# Altium integrated library Analog Devices Interface and Isolation Digital Isolators.IntLib: 644 symbols (part 22 of 37)
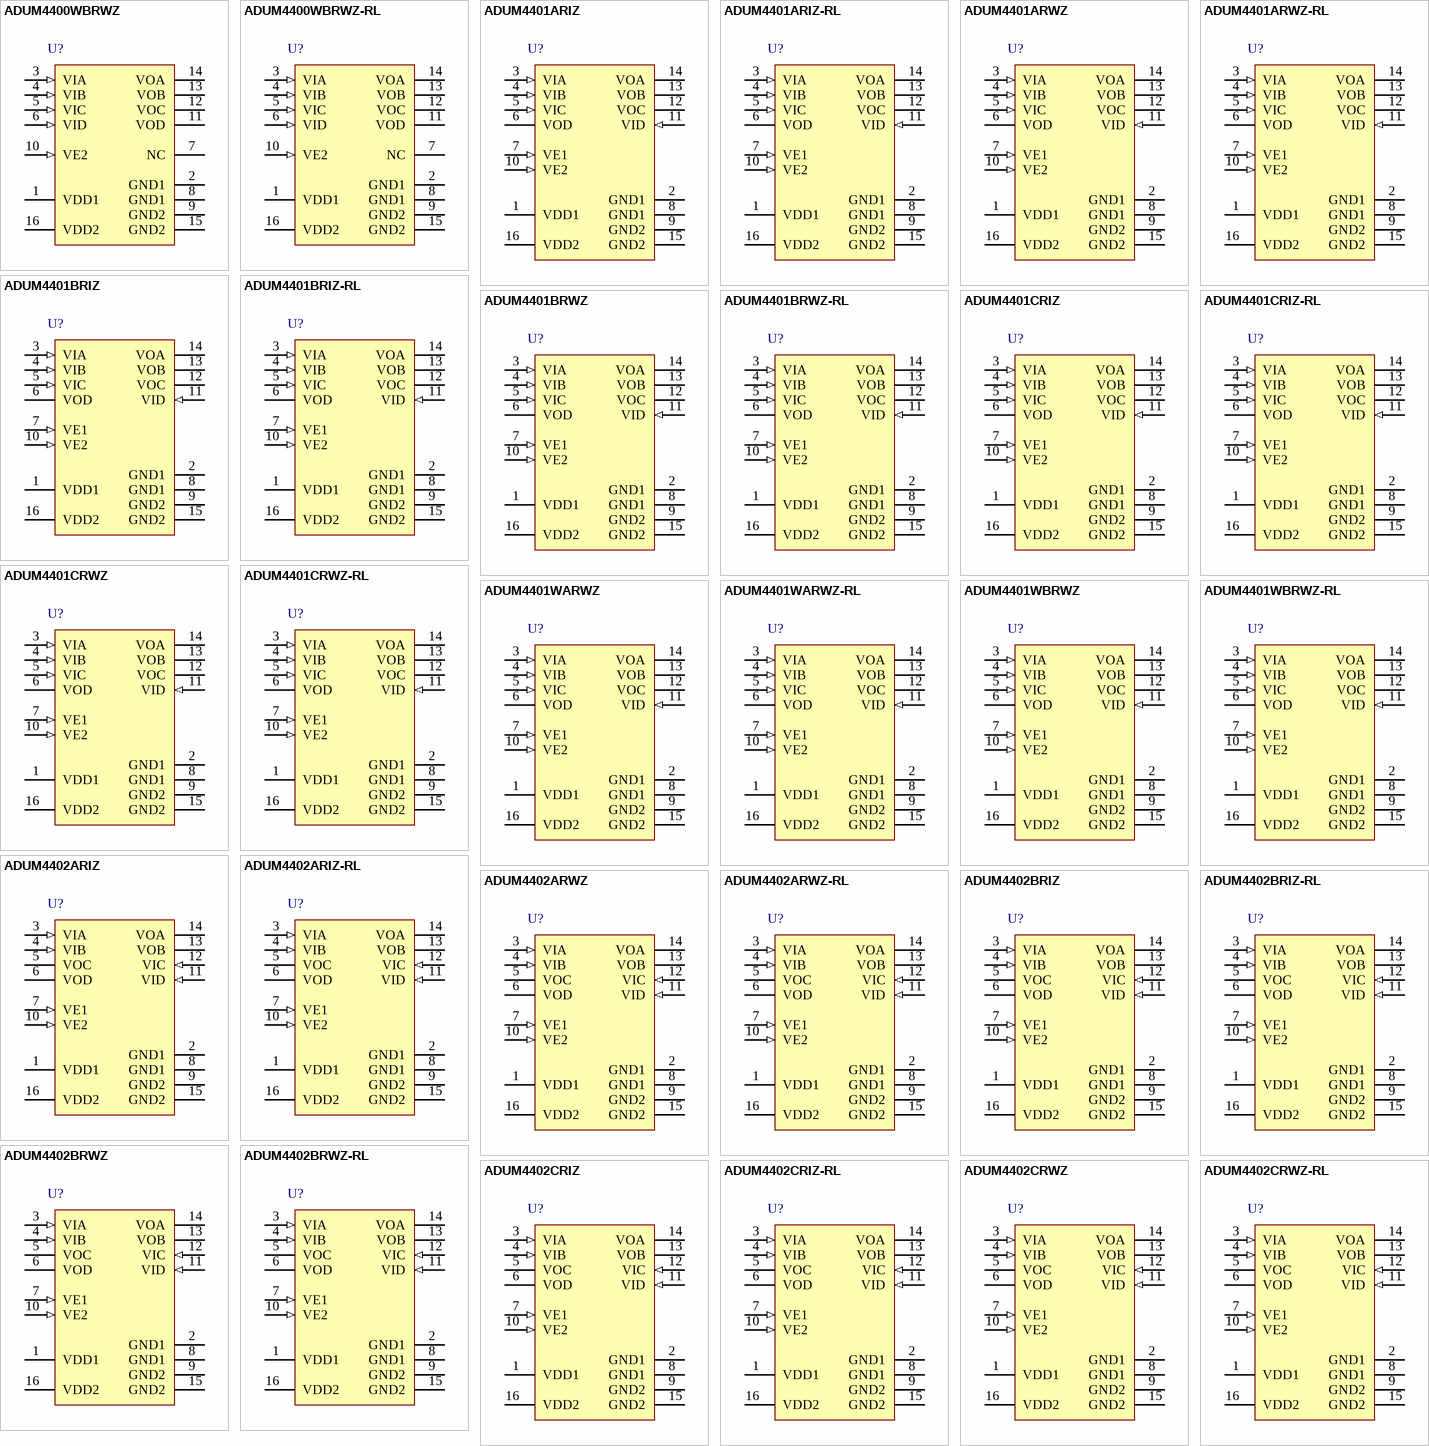
[diagram p41: symbols ADUM4400WBRWZ to ADUM4402CRWZ-RL]

## ADUM4401CRIZ
designator U?
Quad Channel Digital Isolator, 5 KV rms Insulation Rating, 90 Mbps Data Rate, 32 ns Delay, Industrial, 16-pin SOIC (RI-16-1), Tube; Manufacturer: Analog Devices; PartNumber: ADUM4401CRIZ; Insulation Rating (kVrms): 5; Max Data Rate: 90Mbps; DatasheetVersion: Rev. C; PackageVersion: 10-12-2010-A, 02/2012; PackageReference: RI-16-1; PackageDescription: 16-Pin Standard Small Outline Package, with Increased Creepage, Body 12.8 x 7.5 mm, Pitch 1.27 mm; Supplier 1: Digi-Key; Supplier Part Number 1: ADUM4401CRIZ-ND; Supplier 2: Farnell; Supplier Part Number 2: 2061083; Supplier 3: Mouser; Supplier Part Number 3: 584-ADUM4401CRIZ; Max Operating Temp (degreesC): 105; Mounting Technology: Surface Mount; Code_JEDEC: MS-013-AC; ComponentLink1Description: Manufacturer URL; ComponentLink1URL: http://www.analog.com/en/index.html; ComponentLink2Description: Datasheet; ComponentLink2URL: http://www.analog.com/static/imported-files/data_sheets/ADuM4400_4401_4402.pdf; ComponentLink3Description: Package Specification; ComponentLink3URL: http://www.analog.com/static/imported-files/data_sheets/ADuM2400_2401_2402.pdf; ComponentLink4Description: URL Link1; ComponentLink4URL: Product URL:http://www.analog.com/en/interface-isolation/digital-isolators/adum4401/products/product.html
footprint ADI-RI-16-1_N (SOIC, 16-Leads, Body 12.8x7.5mm, Pitch 1.27mm, IPC Medium Density)
footprint ADI-RI-16-1_L (SOIC, 16-Leads, Body 12.8x7.5mm, Pitch 1.27mm, IPC High Density)
footprint ADI-RI-16-1_M (SOIC, 16-Leads, Body 12.8x7.5mm, Pitch 1.27mm, IPC Low Density)
pins: 1 VDD1 (power) "Supply Voltage for Isolator Side 1.", 2 GND1 (power) "Ground 1. Ground reference for Isolator Side 1.", 3 VIA (in) "Logic Input A.", 4 VIB (in) "Logic Input B.", 5 VIC (in) "Logic Input C.", 6 VOD (hiz) "Logic Output D.", 7 VE1 (in) "Output Enable 1. Active high logic input. VOD output is enabled when VE1 is high or disconnected. VOD is disabled when VE1 is low. In noisy environments, connecting VE1 to an external logic high or low is recommended.", 8 GND1 (power) "Ground 1. Ground reference for Isolator Side 1.", 9 GND2 (power) "Ground 2. Ground reference for Isolator Side 2.", 10 VE2 (in) "Output Enable 2. Active high logic input. VOA, VOB, and VOC outputs are enabled when VE2 is high or disconnected. VOA, VOB, and VOC outputs are disabled when VE2 is low. In noisy environments, connecting VE2 to an external (See Datasheet)", 11 VID (in) "Logic Input D.", 12 VOC (hiz) "Logic Output C.", 13 VOB (hiz) "Logic Output B.", 14 VOA (hiz) "Logic Output A.", 15 GND2 (power) "Ground 2. Ground reference for Isolator Side 2.", 16 VDD2 (power) "Supply Voltage for Isolator Side 2."

## ADUM4401CRIZ-RL
designator U?
Quad Channel Digital Isolator, 5 KV rms Insulation Rating, 90 Mbps Data Rate, 32 ns Delay, Industrial, 16-pin SOIC (RI-16-1), Reel; Manufacturer: Analog Devices; PartNumber: ADUM4401CRIZ-RL; Insulation Rating (kVrms): 5; Max Data Rate: 90Mbps; DatasheetVersion: Rev. C; PackageVersion: 10-12-2010-A, 02/2012; PackageReference: RI-16-1; PackageDescription: 16-Pin Standard Small Outline Package, with Increased Creepage, Body 12.8 x 7.5 mm, Pitch 1.27 mm; Supplier 1: Digi-Key; Supplier Part Number 1: ADUM4401CRIZ-RL-ND; Supplier 2: Mouser; Supplier Part Number 2: 584-ADUM4401CRIZ-R; Max Operating Temp (degreesC): 105; Mounting Technology: Surface Mount; Code_JEDEC: MS-013-AC; ComponentLink1Description: Manufacturer URL; ComponentLink1URL: http://www.analog.com/en/index.html; ComponentLink2Description: Datasheet; ComponentLink2URL: http://www.analog.com/static/imported-files/data_sheets/ADuM4400_4401_4402.pdf; ComponentLink3Description: Package Specification; ComponentLink3URL: http://www.analog.com/static/imported-files/data_sheets/ADuM2400_2401_2402.pdf; ComponentLink4Description: URL Link1; ComponentLink4URL: Product URL:http://www.analog.com/en/interface-isolation/digital-isolators/adum4401/products/product.html
footprint ADI-RI-16-1_N (SOIC, 16-Leads, Body 12.8x7.5mm, Pitch 1.27mm, IPC Medium Density)
footprint ADI-RI-16-1_L (SOIC, 16-Leads, Body 12.8x7.5mm, Pitch 1.27mm, IPC High Density)
footprint ADI-RI-16-1_M (SOIC, 16-Leads, Body 12.8x7.5mm, Pitch 1.27mm, IPC Low Density)
pins: 1 VDD1 (power) "Supply Voltage for Isolator Side 1.", 2 GND1 (power) "Ground 1. Ground reference for Isolator Side 1.", 3 VIA (in) "Logic Input A.", 4 VIB (in) "Logic Input B.", 5 VIC (in) "Logic Input C.", 6 VOD (hiz) "Logic Output D.", 7 VE1 (in) "Output Enable 1. Active high logic input. VOD output is enabled when VE1 is high or disconnected. VOD is disabled when VE1 is low. In noisy environments, connecting VE1 to an external logic high or low is recommended.", 8 GND1 (power) "Ground 1. Ground reference for Isolator Side 1.", 9 GND2 (power) "Ground 2. Ground reference for Isolator Side 2.", 10 VE2 (in) "Output Enable 2. Active high logic input. VOA, VOB, and VOC outputs are enabled when VE2 is high or disconnected. VOA, VOB, and VOC outputs are disabled when VE2 is low. In noisy environments, connecting VE2 to an external (See Datasheet)", 11 VID (in) "Logic Input D.", 12 VOC (hiz) "Logic Output C.", 13 VOB (hiz) "Logic Output B.", 14 VOA (hiz) "Logic Output A.", 15 GND2 (power) "Ground 2. Ground reference for Isolator Side 2.", 16 VDD2 (power) "Supply Voltage for Isolator Side 2."

## ADUM4401CRWZ
designator U?
Quad Channel Digital Isolator, 5 KV rms Insulation Rating, 90 Mbps Data Rate, 32 ns Delay, Industrial, 16-pin SOIC (RW-16), Tube; Manufacturer: Analog Devices; PartNumber: ADUM4401CRWZ; Insulation Rating (kVrms): 5; Max Data Rate: 90Mbps; DatasheetVersion: Rev. C; PackageVersion: 032707-B, 03/2007; PackageReference: RW-16; PackageDescription: 16-Pin Standard Small Outline Package, Body 10.3 x 7.5 mm, Pitch 1.27 mm; Supplier 1: Digi-Key; Supplier Part Number 1: ADUM4401CRWZ-ND; Supplier 2: Mouser; Supplier Part Number 2: 584-ADUM4401CRWZ; Max Operating Temp (degreesC): 105; Mounting Technology: Surface Mount; Code_JEDEC: MS-013-AA; ComponentLink1Description: Manufacturer URL; ComponentLink1URL: http://www.analog.com/en/index.html; ComponentLink2Description: Datasheet; ComponentLink2URL: http://www.analog.com/static/imported-files/data_sheets/ADuM4400_4401_4402.pdf; ComponentLink3Description: Package Specification; ComponentLink3URL: http://www.analog.com/static/imported-files/packages/PKG_PDF/SOIC_WIDE%20%28RW%29/RW_16.pdf; ComponentLink4Description: URL Link1; ComponentLink4URL: Product URL:http://www.analog.com/en/interface-isolation/digital-isolators/adum4401/products/product.html
footprint ADI-RW-16_N (SOIC, 16-Leads, Body 10.3x7.5mm, Pitch 1.27mm, IPC Medium Density)
footprint ADI-RW-16_L (SOIC, 16-Leads, Body 10.3x7.5mm, Pitch 1.27mm, IPC High Density)
footprint ADI-RW-16_M (SOIC, 16-Leads, Body 10.3x7.5mm, Pitch 1.27mm, IPC Low Density)
pins: 1 VDD1 (power) "Supply Voltage for Isolator Side 1.", 2 GND1 (power) "Ground 1. Ground reference for Isolator Side 1.", 3 VIA (in) "Logic Input A.", 4 VIB (in) "Logic Input B.", 5 VIC (in) "Logic Input C.", 6 VOD (hiz) "Logic Output D.", 7 VE1 (in) "Output Enable 1. Active high logic input. VOD output is enabled when VE1 is high or disconnected. VOD is disabled when VE1 is low. In noisy environments, connecting VE1 to an external logic high or low is recommended.", 8 GND1 (power) "Ground 1. Ground reference for Isolator Side 1.", 9 GND2 (power) "Ground 2. Ground reference for Isolator Side 2.", 10 VE2 (in) "Output Enable 2. Active high logic input. VOA, VOB, and VOC outputs are enabled when VE2 is high or disconnected. VOA, VOB, and VOC outputs are disabled when VE2 is low. In noisy environments, connecting VE2 to an external (See Datasheet)", 11 VID (in) "Logic Input D.", 12 VOC (hiz) "Logic Output C.", 13 VOB (hiz) "Logic Output B.", 14 VOA (hiz) "Logic Output A.", 15 GND2 (power) "Ground 2. Ground reference for Isolator Side 2.", 16 VDD2 (power) "Supply Voltage for Isolator Side 2."

## ADUM4401CRWZ-RL
designator U?
Quad Channel Digital Isolator, 5 KV rms Insulation Rating, 90 Mbps Data Rate, 32 ns Delay, Industrial, 16-pin SOIC (RW-16), Reel; Manufacturer: Analog Devices; PartNumber: ADUM4401CRWZ-RL; Insulation Rating (kVrms): 5; Max Data Rate: 90Mbps; DatasheetVersion: Rev. C; PackageVersion: 032707-B, 03/2007; PackageReference: RW-16; PackageDescription: 16-Pin Standard Small Outline Package, Body 10.3 x 7.5 mm, Pitch 1.27 mm; Supplier 1: Digi-Key; Supplier Part Number 1: ADUM4401CRWZ-RL-ND; Supplier 2: Mouser; Supplier Part Number 2: 584-ADUM4401CRWZ-R; Max Operating Temp (degreesC): 105; Mounting Technology: Surface Mount; Code_JEDEC: MS-013-AA; ComponentLink1Description: Manufacturer URL; ComponentLink1URL: http://www.analog.com/en/index.html; ComponentLink2Description: Datasheet; ComponentLink2URL: http://www.analog.com/static/imported-files/data_sheets/ADuM4400_4401_4402.pdf; ComponentLink3Description: Package Specification; ComponentLink3URL: http://www.analog.com/static/imported-files/packages/PKG_PDF/SOIC_WIDE%20%28RW%29/RW_16.pdf; ComponentLink4Description: URL Link1; ComponentLink4URL: Product URL:http://www.analog.com/en/interface-isolation/digital-isolators/adum4401/products/product.html
footprint ADI-RW-16_N (SOIC, 16-Leads, Body 10.3x7.5mm, Pitch 1.27mm, IPC Medium Density)
footprint ADI-RW-16_L (SOIC, 16-Leads, Body 10.3x7.5mm, Pitch 1.27mm, IPC High Density)
footprint ADI-RW-16_M (SOIC, 16-Leads, Body 10.3x7.5mm, Pitch 1.27mm, IPC Low Density)
pins: 1 VDD1 (power) "Supply Voltage for Isolator Side 1.", 2 GND1 (power) "Ground 1. Ground reference for Isolator Side 1.", 3 VIA (in) "Logic Input A.", 4 VIB (in) "Logic Input B.", 5 VIC (in) "Logic Input C.", 6 VOD (hiz) "Logic Output D.", 7 VE1 (in) "Output Enable 1. Active high logic input. VOD output is enabled when VE1 is high or disconnected. VOD is disabled when VE1 is low. In noisy environments, connecting VE1 to an external logic high or low is recommended.", 8 GND1 (power) "Ground 1. Ground reference for Isolator Side 1.", 9 GND2 (power) "Ground 2. Ground reference for Isolator Side 2.", 10 VE2 (in) "Output Enable 2. Active high logic input. VOA, VOB, and VOC outputs are enabled when VE2 is high or disconnected. VOA, VOB, and VOC outputs are disabled when VE2 is low. In noisy environments, connecting VE2 to an external (See Datasheet)", 11 VID (in) "Logic Input D.", 12 VOC (hiz) "Logic Output C.", 13 VOB (hiz) "Logic Output B.", 14 VOA (hiz) "Logic Output A.", 15 GND2 (power) "Ground 2. Ground reference for Isolator Side 2.", 16 VDD2 (power) "Supply Voltage for Isolator Side 2."

## ADUM4401WARWZ
designator U?
Quad Channel Digital Isolator, 5 KV rms Insulation Rating, 1 Mbps Data Rate, 100 ns Delay, Automotive, 16-pin SOIC (RW-16), Tube; Manufacturer: Analog Devices; PartNumber: ADUM4401WARWZ; Automotive Qualified: Yes; Insulation Rating (kVrms): 5; Max Data Rate: 1Mbps; DatasheetVersion: Rev. C; PackageVersion: 032707-B, 03/2007; PackageReference: RW-16; PackageDescription: 16-Pin Standard Small Outline Package, Body 10.3 x 7.5 mm, Pitch 1.27 mm; Supplier 1: Digi-Key; Supplier Part Number 1: ADUM4401WARWZ-ND; Supplier 2: Mouser; Supplier Part Number 2: 584-ADUM4401WARWZ; Max Operating Temp (degreesC): 105; Mounting Technology: Surface Mount; Code_JEDEC: MS-013-AA; ComponentLink1Description: Manufacturer URL; ComponentLink1URL: http://www.analog.com/en/index.html; ComponentLink2Description: Datasheet; ComponentLink2URL: http://www.analog.com/static/imported-files/data_sheets/ADuM4400_4401_4402.pdf; ComponentLink3Description: Package Specification; ComponentLink3URL: http://www.analog.com/static/imported-files/packages/PKG_PDF/SOIC_WIDE%20%28RW%29/RW_16.pdf; ComponentLink4Description: URL Link1; ComponentLink4URL: Product URL:http://www.analog.com/en/interface-isolation/digital-isolators/adum4401/products/product.html
footprint ADI-RW-16_N (SOIC, 16-Leads, Body 10.3x7.5mm, Pitch 1.27mm, IPC Medium Density)
footprint ADI-RW-16_L (SOIC, 16-Leads, Body 10.3x7.5mm, Pitch 1.27mm, IPC High Density)
footprint ADI-RW-16_M (SOIC, 16-Leads, Body 10.3x7.5mm, Pitch 1.27mm, IPC Low Density)
pins: 1 VDD1 (power) "Supply Voltage for Isolator Side 1.", 2 GND1 (power) "Ground 1. Ground reference for Isolator Side 1.", 3 VIA (in) "Logic Input A.", 4 VIB (in) "Logic Input B.", 5 VIC (in) "Logic Input C.", 6 VOD (hiz) "Logic Output D.", 7 VE1 (in) "Output Enable 1. Active high logic input. VOD output is enabled when VE1 is high or disconnected. VOD is disabled when VE1 is low. In noisy environments, connecting VE1 to an external logic high or low is recommended.", 8 GND1 (power) "Ground 1. Ground reference for Isolator Side 1.", 9 GND2 (power) "Ground 2. Ground reference for Isolator Side 2.", 10 VE2 (in) "Output Enable 2. Active high logic input. VOA, VOB, and VOC outputs are enabled when VE2 is high or disconnected. VOA, VOB, and VOC outputs are disabled when VE2 is low. In noisy environments, connecting VE2 to an external (See Datasheet)", 11 VID (in) "Logic Input D.", 12 VOC (hiz) "Logic Output C.", 13 VOB (hiz) "Logic Output B.", 14 VOA (hiz) "Logic Output A.", 15 GND2 (power) "Ground 2. Ground reference for Isolator Side 2.", 16 VDD2 (power) "Supply Voltage for Isolator Side 2."

## ADUM4401WARWZ-RL
designator U?
Quad Channel Digital Isolator, 5 KV rms Insulation Rating, 1 Mbps Data Rate, 100 ns Delay, Automotive, 16-pin SOIC (RW-16), Reel; Manufacturer: Analog Devices; PartNumber: ADUM4401WARWZ-RL; Automotive Qualified: Yes; Insulation Rating (kVrms): 5; Max Data Rate: 1Mbps; DatasheetVersion: Rev. C; PackageVersion: 032707-B, 03/2007; PackageReference: RW-16; PackageDescription: 16-Pin Standard Small Outline Package, Body 10.3 x 7.5 mm, Pitch 1.27 mm; Supplier 1: Digi-Key; Supplier Part Number 1: ADUM4401WARWZ-RL-ND; Supplier 2: Mouser; Supplier Part Number 2: 584-ADUM4401WARWZ-R; Max Operating Temp (degreesC): 105; Mounting Technology: Surface Mount; Code_JEDEC: MS-013-AA; ComponentLink1Description: Manufacturer URL; ComponentLink1URL: http://www.analog.com/en/index.html; ComponentLink2Description: Datasheet; ComponentLink2URL: http://www.analog.com/static/imported-files/data_sheets/ADuM4400_4401_4402.pdf; ComponentLink3Description: Package Specification; ComponentLink3URL: http://www.analog.com/static/imported-files/packages/PKG_PDF/SOIC_WIDE%20%28RW%29/RW_16.pdf; ComponentLink4Description: URL Link1; ComponentLink4URL: Product URL:http://www.analog.com/en/interface-isolation/digital-isolators/adum4401/products/product.html
footprint ADI-RW-16_N (SOIC, 16-Leads, Body 10.3x7.5mm, Pitch 1.27mm, IPC Medium Density)
footprint ADI-RW-16_L (SOIC, 16-Leads, Body 10.3x7.5mm, Pitch 1.27mm, IPC High Density)
footprint ADI-RW-16_M (SOIC, 16-Leads, Body 10.3x7.5mm, Pitch 1.27mm, IPC Low Density)
pins: 1 VDD1 (power) "Supply Voltage for Isolator Side 1.", 2 GND1 (power) "Ground 1. Ground reference for Isolator Side 1.", 3 VIA (in) "Logic Input A.", 4 VIB (in) "Logic Input B.", 5 VIC (in) "Logic Input C.", 6 VOD (hiz) "Logic Output D.", 7 VE1 (in) "Output Enable 1. Active high logic input. VOD output is enabled when VE1 is high or disconnected. VOD is disabled when VE1 is low. In noisy environments, connecting VE1 to an external logic high or low is recommended.", 8 GND1 (power) "Ground 1. Ground reference for Isolator Side 1.", 9 GND2 (power) "Ground 2. Ground reference for Isolator Side 2.", 10 VE2 (in) "Output Enable 2. Active high logic input. VOA, VOB, and VOC outputs are enabled when VE2 is high or disconnected. VOA, VOB, and VOC outputs are disabled when VE2 is low. In noisy environments, connecting VE2 to an external (See Datasheet)", 11 VID (in) "Logic Input D.", 12 VOC (hiz) "Logic Output C.", 13 VOB (hiz) "Logic Output B.", 14 VOA (hiz) "Logic Output A.", 15 GND2 (power) "Ground 2. Ground reference for Isolator Side 2.", 16 VDD2 (power) "Supply Voltage for Isolator Side 2."

## ADUM4401WBRWZ
designator U?
Quad Channel Digital Isolator, 5 KV rms Insulation Rating, 10 Mbps Data Rate, 50 ns Delay, Automotive, 16-pin SOIC (RW-16), Tube; Manufacturer: Analog Devices; PartNumber: ADUM4401WBRWZ; Automotive Qualified: Yes; Insulation Rating (kVrms): 5; Max Data Rate: 10Mbps; DatasheetVersion: Rev. C; PackageVersion: 032707-B, 03/2007; PackageReference: RW-16; PackageDescription: 16-Pin Standard Small Outline Package, Body 10.3 x 7.5 mm, Pitch 1.27 mm; Supplier 1: Digi-Key; Supplier Part Number 1: ADUM4401WBRWZ-ND; Supplier 2: Mouser; Supplier Part Number 2: 584-ADUM4401WBRWZ; Max Operating Temp (degreesC): 105; Mounting Technology: Surface Mount; Code_JEDEC: MS-013-AA; ComponentLink1Description: Manufacturer URL; ComponentLink1URL: http://www.analog.com/en/index.html; ComponentLink2Description: Datasheet; ComponentLink2URL: http://www.analog.com/static/imported-files/data_sheets/ADuM4400_4401_4402.pdf; ComponentLink3Description: Package Specification; ComponentLink3URL: http://www.analog.com/static/imported-files/packages/PKG_PDF/SOIC_WIDE%20%28RW%29/RW_16.pdf; ComponentLink4Description: URL Link1; ComponentLink4URL: Product URL:http://www.analog.com/en/interface-isolation/digital-isolators/adum4401/products/product.html
footprint ADI-RW-16_N (SOIC, 16-Leads, Body 10.3x7.5mm, Pitch 1.27mm, IPC Medium Density)
footprint ADI-RW-16_L (SOIC, 16-Leads, Body 10.3x7.5mm, Pitch 1.27mm, IPC High Density)
footprint ADI-RW-16_M (SOIC, 16-Leads, Body 10.3x7.5mm, Pitch 1.27mm, IPC Low Density)
pins: 1 VDD1 (power) "Supply Voltage for Isolator Side 1.", 2 GND1 (power) "Ground 1. Ground reference for Isolator Side 1.", 3 VIA (in) "Logic Input A.", 4 VIB (in) "Logic Input B.", 5 VIC (in) "Logic Input C.", 6 VOD (hiz) "Logic Output D.", 7 VE1 (in) "Output Enable 1. Active high logic input. VOD output is enabled when VE1 is high or disconnected. VOD is disabled when VE1 is low. In noisy environments, connecting VE1 to an external logic high or low is recommended.", 8 GND1 (power) "Ground 1. Ground reference for Isolator Side 1.", 9 GND2 (power) "Ground 2. Ground reference for Isolator Side 2.", 10 VE2 (in) "Output Enable 2. Active high logic input. VOA, VOB, and VOC outputs are enabled when VE2 is high or disconnected. VOA, VOB, and VOC outputs are disabled when VE2 is low. In noisy environments, connecting VE2 to an external (See Datasheet)", 11 VID (in) "Logic Input D.", 12 VOC (hiz) "Logic Output C.", 13 VOB (hiz) "Logic Output B.", 14 VOA (hiz) "Logic Output A.", 15 GND2 (power) "Ground 2. Ground reference for Isolator Side 2.", 16 VDD2 (power) "Supply Voltage for Isolator Side 2."

## ADUM4401WBRWZ-RL
designator U?
Quad Channel Digital Isolator, 5 KV rms Insulation Rating, 10 Mbps Data Rate, 50 ns Delay, Automotive, 16-pin SOIC (RW-16), Reel; Manufacturer: Analog Devices; PartNumber: ADUM4401WBRWZ-RL; Automotive Qualified: Yes; Insulation Rating (kVrms): 5; Max Data Rate: 10Mbps; DatasheetVersion: Rev. C; PackageVersion: 032707-B, 03/2007; PackageReference: RW-16; PackageDescription: 16-Pin Standard Small Outline Package, Body 10.3 x 7.5 mm, Pitch 1.27 mm; Supplier 1: Digi-Key; Supplier Part Number 1: ADUM4401WBRWZ-RL-ND; Supplier 2: Mouser; Supplier Part Number 2: 584-ADUM4401WBRWZ-R; Max Operating Temp (degreesC): 105; Mounting Technology: Surface Mount; Code_JEDEC: MS-013-AA; ComponentLink1Description: Manufacturer URL; ComponentLink1URL: http://www.analog.com/en/index.html; ComponentLink2Description: Datasheet; ComponentLink2URL: http://www.analog.com/static/imported-files/data_sheets/ADuM4400_4401_4402.pdf; ComponentLink3Description: Package Specification; ComponentLink3URL: http://www.analog.com/static/imported-files/packages/PKG_PDF/SOIC_WIDE%20%28RW%29/RW_16.pdf; ComponentLink4Description: URL Link1; ComponentLink4URL: Product URL:http://www.analog.com/en/interface-isolation/digital-isolators/adum4401/products/product.html
footprint ADI-RW-16_N (SOIC, 16-Leads, Body 10.3x7.5mm, Pitch 1.27mm, IPC Medium Density)
footprint ADI-RW-16_L (SOIC, 16-Leads, Body 10.3x7.5mm, Pitch 1.27mm, IPC High Density)
footprint ADI-RW-16_M (SOIC, 16-Leads, Body 10.3x7.5mm, Pitch 1.27mm, IPC Low Density)
pins: 1 VDD1 (power) "Supply Voltage for Isolator Side 1.", 2 GND1 (power) "Ground 1. Ground reference for Isolator Side 1.", 3 VIA (in) "Logic Input A.", 4 VIB (in) "Logic Input B.", 5 VIC (in) "Logic Input C.", 6 VOD (hiz) "Logic Output D.", 7 VE1 (in) "Output Enable 1. Active high logic input. VOD output is enabled when VE1 is high or disconnected. VOD is disabled when VE1 is low. In noisy environments, connecting VE1 to an external logic high or low is recommended.", 8 GND1 (power) "Ground 1. Ground reference for Isolator Side 1.", 9 GND2 (power) "Ground 2. Ground reference for Isolator Side 2.", 10 VE2 (in) "Output Enable 2. Active high logic input. VOA, VOB, and VOC outputs are enabled when VE2 is high or disconnected. VOA, VOB, and VOC outputs are disabled when VE2 is low. In noisy environments, connecting VE2 to an external (See Datasheet)", 11 VID (in) "Logic Input D.", 12 VOC (hiz) "Logic Output C.", 13 VOB (hiz) "Logic Output B.", 14 VOA (hiz) "Logic Output A.", 15 GND2 (power) "Ground 2. Ground reference for Isolator Side 2.", 16 VDD2 (power) "Supply Voltage for Isolator Side 2."

## ADUM4402ARIZ
designator U?
Quad Channel Digital Isolator, 5 KV rms Insulation Rating, 1 Mbps Data Rate, 100 ns Delay, Industrial, 16-pin SOIC (RI-16-1), Tube; Manufacturer: Analog Devices; PartNumber: ADUM4402ARIZ; Insulation Rating (kVrms): 5; Max Data Rate: 1Mbps; DatasheetVersion: Rev. C; PackageVersion: 10-12-2010-A, 02/2012; PackageReference: RI-16-1; PackageDescription: 16-Pin Standard Small Outline Package, with Increased Creepage, Body 12.8 x 7.5 mm, Pitch 1.27 mm; Supplier 1: Digi-Key; Supplier Part Number 1: ADUM4402ARIZ-ND; Supplier 2: Mouser; Supplier Part Number 2: 584-ADUM4402ARIZ; Max Operating Temp (degreesC): 105; Mounting Technology: Surface Mount; Code_JEDEC: MS-013-AC; ComponentLink1Description: Manufacturer URL; ComponentLink1URL: http://www.analog.com/en/index.html; ComponentLink2Description: Datasheet; ComponentLink2URL: http://www.analog.com/static/imported-files/data_sheets/ADuM4400_4401_4402.pdf; ComponentLink3Description: Package Specification; ComponentLink3URL: http://www.analog.com/static/imported-files/data_sheets/ADuM2400_2401_2402.pdf; ComponentLink4Description: URL Link1; ComponentLink4URL: Product URL:http://www.analog.com/en/interface-isolation/digital-isolators/adum4402/products/product.html
footprint ADI-RI-16-1_N (SOIC, 16-Leads, Body 12.8x7.5mm, Pitch 1.27mm, IPC Medium Density)
footprint ADI-RI-16-1_L (SOIC, 16-Leads, Body 12.8x7.5mm, Pitch 1.27mm, IPC High Density)
footprint ADI-RI-16-1_M (SOIC, 16-Leads, Body 12.8x7.5mm, Pitch 1.27mm, IPC Low Density)
pins: 1 VDD1 (power) "Supply Voltage for Isolator Side 1.", 2 GND1 (power) "Ground 1. Ground reference for Isolator Side 1.", 3 VIA (in) "Logic Input A.", 4 VIB (in) "Logic Input B.", 5 VOC (hiz) "Logic Output C.", 6 VOD (hiz) "Logic Output D.", 7 VE1 (in) "Output Enable 1. Active high logic input. VOC and VOD outputs are enabled when VE1 is high or disconnected. VOC and VOD outputs are disabled when VE1 is low. In noisy environments, connecting VE1 to an external logic high or (See Datasheet)", 8 GND1 (power) "Ground 1. Ground reference for Isolator Side 1.", 9 GND2 (power) "Ground 2. Ground reference for Isolator Side 2.", 10 VE2 (in) "Output Enable 2. Active high logic input. VOA and VOB outputs are enabled when VE2 is high or disconnected. VOA and VOB outputs are disabled when VE2 is low. In noisy environments, connecting VE2 to an external logic high or (See Datasheet)", 11 VID (in) "Logic Input D.", 12 VIC (in) "Logic Input C.", 13 VOB (hiz) "Logic Output B.", 14 VOA (hiz) "Logic Output A.", 15 GND2 (power) "Ground 2. Ground reference for Isolator Side 2.", 16 VDD2 (power) "Supply Voltage for Isolator Side 2."

## ADUM4402ARIZ-RL
designator U?
Quad Channel Digital Isolator, 5 KV rms Insulation Rating, 1 Mbps Data Rate, 100 ns Delay, Industrial, 16-pin SOIC (RI-16-1), Reel; Manufacturer: Analog Devices; PartNumber: ADUM4402ARIZ-RL; Insulation Rating (kVrms): 5; Max Data Rate: 1Mbps; DatasheetVersion: Rev. C; PackageVersion: 10-12-2010-A, 02/2012; PackageReference: RI-16-1; PackageDescription: 16-Pin Standard Small Outline Package, with Increased Creepage, Body 12.8 x 7.5 mm, Pitch 1.27 mm; Supplier 1: Digi-Key; Supplier Part Number 1: ADUM4402ARIZ-RL-ND; Supplier 2: Mouser; Supplier Part Number 2: 584-ADUM4402ARIZ-R; Max Operating Temp (degreesC): 105; Mounting Technology: Surface Mount; Code_JEDEC: MS-013-AC; ComponentLink1Description: Manufacturer URL; ComponentLink1URL: http://www.analog.com/en/index.html; ComponentLink2Description: Datasheet; ComponentLink2URL: http://www.analog.com/static/imported-files/data_sheets/ADuM4400_4401_4402.pdf; ComponentLink3Description: Package Specification; ComponentLink3URL: http://www.analog.com/static/imported-files/data_sheets/ADuM2400_2401_2402.pdf; ComponentLink4Description: URL Link1; ComponentLink4URL: Product URL:http://www.analog.com/en/interface-isolation/digital-isolators/adum4402/products/product.html
footprint ADI-RI-16-1_N (SOIC, 16-Leads, Body 12.8x7.5mm, Pitch 1.27mm, IPC Medium Density)
footprint ADI-RI-16-1_L (SOIC, 16-Leads, Body 12.8x7.5mm, Pitch 1.27mm, IPC High Density)
footprint ADI-RI-16-1_M (SOIC, 16-Leads, Body 12.8x7.5mm, Pitch 1.27mm, IPC Low Density)
pins: 1 VDD1 (power) "Supply Voltage for Isolator Side 1.", 2 GND1 (power) "Ground 1. Ground reference for Isolator Side 1.", 3 VIA (in) "Logic Input A.", 4 VIB (in) "Logic Input B.", 5 VOC (hiz) "Logic Output C.", 6 VOD (hiz) "Logic Output D.", 7 VE1 (in) "Output Enable 1. Active high logic input. VOC and VOD outputs are enabled when VE1 is high or disconnected. VOC and VOD outputs are disabled when VE1 is low. In noisy environments, connecting VE1 to an external logic high or (See Datasheet)", 8 GND1 (power) "Ground 1. Ground reference for Isolator Side 1.", 9 GND2 (power) "Ground 2. Ground reference for Isolator Side 2.", 10 VE2 (in) "Output Enable 2. Active high logic input. VOA and VOB outputs are enabled when VE2 is high or disconnected. VOA and VOB outputs are disabled when VE2 is low. In noisy environments, connecting VE2 to an external logic high or (See Datasheet)", 11 VID (in) "Logic Input D.", 12 VIC (in) "Logic Input C.", 13 VOB (hiz) "Logic Output B.", 14 VOA (hiz) "Logic Output A.", 15 GND2 (power) "Ground 2. Ground reference for Isolator Side 2.", 16 VDD2 (power) "Supply Voltage for Isolator Side 2."

## ADUM4402ARWZ
designator U?
Quad Channel Digital Isolator, 5 KV rms Insulation Rating, 1 Mbps Data Rate, 100 ns Delay, Industrial, 16-pin SOIC (RW-16), Tube; Manufacturer: Analog Devices; PartNumber: ADUM4402ARWZ; Insulation Rating (kVrms): 5; Max Data Rate: 1Mbps; DatasheetVersion: Rev. C; PackageVersion: 032707-B, 03/2007; PackageReference: RW-16; PackageDescription: 16-Pin Standard Small Outline Package, Body 10.3 x 7.5 mm, Pitch 1.27 mm; Supplier 1: Digi-Key; Supplier Part Number 1: ADUM4402ARWZ-ND; Supplier 2: Farnell; Supplier Part Number 2: 2377162; Supplier 3: Mouser; Supplier Part Number 3: 584-ADUM4402ARWZ; Max Operating Temp (degreesC): 105; Mounting Technology: Surface Mount; Code_JEDEC: MS-013-AA; ComponentLink1Description: Manufacturer URL; ComponentLink1URL: http://www.analog.com/en/index.html; ComponentLink2Description: Datasheet; ComponentLink2URL: http://www.analog.com/static/imported-files/data_sheets/ADuM4400_4401_4402.pdf; ComponentLink3Description: Package Specification; ComponentLink3URL: http://www.analog.com/static/imported-files/packages/PKG_PDF/SOIC_WIDE%20%28RW%29/RW_16.pdf; ComponentLink4Description: URL Link1; ComponentLink4URL: Product URL:http://www.analog.com/en/interface-isolation/digital-isolators/adum4402/products/product.html
footprint ADI-RW-16_N (SOIC, 16-Leads, Body 10.3x7.5mm, Pitch 1.27mm, IPC Medium Density)
footprint ADI-RW-16_L (SOIC, 16-Leads, Body 10.3x7.5mm, Pitch 1.27mm, IPC High Density)
footprint ADI-RW-16_M (SOIC, 16-Leads, Body 10.3x7.5mm, Pitch 1.27mm, IPC Low Density)
pins: 1 VDD1 (power) "Supply Voltage for Isolator Side 1.", 2 GND1 (power) "Ground 1. Ground reference for Isolator Side 1.", 3 VIA (in) "Logic Input A.", 4 VIB (in) "Logic Input B.", 5 VOC (hiz) "Logic Output C.", 6 VOD (hiz) "Logic Output D.", 7 VE1 (in) "Output Enable 1. Active high logic input. VOC and VOD outputs are enabled when VE1 is high or disconnected. VOC and VOD outputs are disabled when VE1 is low. In noisy environments, connecting VE1 to an external logic high or (See Datasheet)", 8 GND1 (power) "Ground 1. Ground reference for Isolator Side 1.", 9 GND2 (power) "Ground 2. Ground reference for Isolator Side 2.", 10 VE2 (in) "Output Enable 2. Active high logic input. VOA and VOB outputs are enabled when VE2 is high or disconnected. VOA and VOB outputs are disabled when VE2 is low. In noisy environments, connecting VE2 to an external logic high or (See Datasheet)", 11 VID (in) "Logic Input D.", 12 VIC (in) "Logic Input C.", 13 VOB (hiz) "Logic Output B.", 14 VOA (hiz) "Logic Output A.", 15 GND2 (power) "Ground 2. Ground reference for Isolator Side 2.", 16 VDD2 (power) "Supply Voltage for Isolator Side 2."

## ADUM4402ARWZ-RL
designator U?
Quad Channel Digital Isolator, 5 KV rms Insulation Rating, 1 Mbps Data Rate, 100 ns Delay, Industrial, 16-pin SOIC (RW-16), Reel; Manufacturer: Analog Devices; PartNumber: ADUM4402ARWZ-RL; Insulation Rating (kVrms): 5; Max Data Rate: 1Mbps; DatasheetVersion: Rev. C; PackageVersion: 032707-B, 03/2007; PackageReference: RW-16; PackageDescription: 16-Pin Standard Small Outline Package, Body 10.3 x 7.5 mm, Pitch 1.27 mm; Supplier 1: Digi-Key; Supplier Part Number 1: ADUM4402ARWZ-RL-ND; Supplier 2: Mouser; Supplier Part Number 2: 584-ADUM4402ARWZ-R; Max Operating Temp (degreesC): 105; Mounting Technology: Surface Mount; Code_JEDEC: MS-013-AA; ComponentLink1Description: Manufacturer URL; ComponentLink1URL: http://www.analog.com/en/index.html; ComponentLink2Description: Datasheet; ComponentLink2URL: http://www.analog.com/static/imported-files/data_sheets/ADuM4400_4401_4402.pdf; ComponentLink3Description: Package Specification; ComponentLink3URL: http://www.analog.com/static/imported-files/packages/PKG_PDF/SOIC_WIDE%20%28RW%29/RW_16.pdf; ComponentLink4Description: URL Link1; ComponentLink4URL: Product URL:http://www.analog.com/en/interface-isolation/digital-isolators/adum4402/products/product.html
footprint ADI-RW-16_N (SOIC, 16-Leads, Body 10.3x7.5mm, Pitch 1.27mm, IPC Medium Density)
footprint ADI-RW-16_L (SOIC, 16-Leads, Body 10.3x7.5mm, Pitch 1.27mm, IPC High Density)
footprint ADI-RW-16_M (SOIC, 16-Leads, Body 10.3x7.5mm, Pitch 1.27mm, IPC Low Density)
pins: 1 VDD1 (power) "Supply Voltage for Isolator Side 1.", 2 GND1 (power) "Ground 1. Ground reference for Isolator Side 1.", 3 VIA (in) "Logic Input A.", 4 VIB (in) "Logic Input B.", 5 VOC (hiz) "Logic Output C.", 6 VOD (hiz) "Logic Output D.", 7 VE1 (in) "Output Enable 1. Active high logic input. VOC and VOD outputs are enabled when VE1 is high or disconnected. VOC and VOD outputs are disabled when VE1 is low. In noisy environments, connecting VE1 to an external logic high or (See Datasheet)", 8 GND1 (power) "Ground 1. Ground reference for Isolator Side 1.", 9 GND2 (power) "Ground 2. Ground reference for Isolator Side 2.", 10 VE2 (in) "Output Enable 2. Active high logic input. VOA and VOB outputs are enabled when VE2 is high or disconnected. VOA and VOB outputs are disabled when VE2 is low. In noisy environments, connecting VE2 to an external logic high or (See Datasheet)", 11 VID (in) "Logic Input D.", 12 VIC (in) "Logic Input C.", 13 VOB (hiz) "Logic Output B.", 14 VOA (hiz) "Logic Output A.", 15 GND2 (power) "Ground 2. Ground reference for Isolator Side 2.", 16 VDD2 (power) "Supply Voltage for Isolator Side 2."

## ADUM4402BRIZ
designator U?
Quad Channel Digital Isolator, 5 KV rms Insulation Rating, 10 Mbps Data Rate, 50 ns Delay, Industrial, 16-pin SOIC (RI-16-1), Tube; Manufacturer: Analog Devices; PartNumber: ADUM4402BRIZ; Insulation Rating (kVrms): 5; Max Data Rate: 10Mbps; DatasheetVersion: Rev. C; PackageVersion: 10-12-2010-A, 02/2012; PackageReference: RI-16-1; PackageDescription: 16-Pin Standard Small Outline Package, with Increased Creepage, Body 12.8 x 7.5 mm, Pitch 1.27 mm; Supplier 1: Digi-Key; Supplier Part Number 1: ADUM4402BRIZ-ND; Supplier 2: Mouser; Supplier Part Number 2: 584-ADUM4402BRIZ; Max Operating Temp (degreesC): 105; Mounting Technology: Surface Mount; Code_JEDEC: MS-013-AC; ComponentLink1Description: Manufacturer URL; ComponentLink1URL: http://www.analog.com/en/index.html; ComponentLink2Description: Datasheet; ComponentLink2URL: http://www.analog.com/static/imported-files/data_sheets/ADuM4400_4401_4402.pdf; ComponentLink3Description: Package Specification; ComponentLink3URL: http://www.analog.com/static/imported-files/data_sheets/ADuM2400_2401_2402.pdf; ComponentLink4Description: URL Link1; ComponentLink4URL: Product URL:http://www.analog.com/en/interface-isolation/digital-isolators/adum4402/products/product.html
footprint ADI-RI-16-1_N (SOIC, 16-Leads, Body 12.8x7.5mm, Pitch 1.27mm, IPC Medium Density)
footprint ADI-RI-16-1_L (SOIC, 16-Leads, Body 12.8x7.5mm, Pitch 1.27mm, IPC High Density)
footprint ADI-RI-16-1_M (SOIC, 16-Leads, Body 12.8x7.5mm, Pitch 1.27mm, IPC Low Density)
pins: 1 VDD1 (power) "Supply Voltage for Isolator Side 1.", 2 GND1 (power) "Ground 1. Ground reference for Isolator Side 1.", 3 VIA (in) "Logic Input A.", 4 VIB (in) "Logic Input B.", 5 VOC (hiz) "Logic Output C.", 6 VOD (hiz) "Logic Output D.", 7 VE1 (in) "Output Enable 1. Active high logic input. VOC and VOD outputs are enabled when VE1 is high or disconnected. VOC and VOD outputs are disabled when VE1 is low. In noisy environments, connecting VE1 to an external logic high or (See Datasheet)", 8 GND1 (power) "Ground 1. Ground reference for Isolator Side 1.", 9 GND2 (power) "Ground 2. Ground reference for Isolator Side 2.", 10 VE2 (in) "Output Enable 2. Active high logic input. VOA and VOB outputs are enabled when VE2 is high or disconnected. VOA and VOB outputs are disabled when VE2 is low. In noisy environments, connecting VE2 to an external logic high or (See Datasheet)", 11 VID (in) "Logic Input D.", 12 VIC (in) "Logic Input C.", 13 VOB (hiz) "Logic Output B.", 14 VOA (hiz) "Logic Output A.", 15 GND2 (power) "Ground 2. Ground reference for Isolator Side 2.", 16 VDD2 (power) "Supply Voltage for Isolator Side 2."

## ADUM4402BRIZ-RL
designator U?
Quad Channel Digital Isolator, 5 KV rms Insulation Rating, 10 Mbps Data Rate, 50 ns Delay, Industrial, 16-pin SOIC (RI-16-1), Reel; Manufacturer: Analog Devices; PartNumber: ADUM4402BRIZ-RL; Insulation Rating (kVrms): 5; Max Data Rate: 10Mbps; DatasheetVersion: Rev. C; PackageVersion: 10-12-2010-A, 02/2012; PackageReference: RI-16-1; PackageDescription: 16-Pin Standard Small Outline Package, with Increased Creepage, Body 12.8 x 7.5 mm, Pitch 1.27 mm; Supplier 1: Digi-Key; Supplier Part Number 1: ADUM4402BRIZ-RL-ND; Supplier 2: Mouser; Supplier Part Number 2: 584-ADUM4402BRIZ-R; Max Operating Temp (degreesC): 105; Mounting Technology: Surface Mount; Code_JEDEC: MS-013-AC; ComponentLink1Description: Manufacturer URL; ComponentLink1URL: http://www.analog.com/en/index.html; ComponentLink2Description: Datasheet; ComponentLink2URL: http://www.analog.com/static/imported-files/data_sheets/ADuM4400_4401_4402.pdf; ComponentLink3Description: Package Specification; ComponentLink3URL: http://www.analog.com/static/imported-files/data_sheets/ADuM2400_2401_2402.pdf; ComponentLink4Description: URL Link1; ComponentLink4URL: Product URL:http://www.analog.com/en/interface-isolation/digital-isolators/adum4402/products/product.html
footprint ADI-RI-16-1_N (SOIC, 16-Leads, Body 12.8x7.5mm, Pitch 1.27mm, IPC Medium Density)
footprint ADI-RI-16-1_L (SOIC, 16-Leads, Body 12.8x7.5mm, Pitch 1.27mm, IPC High Density)
footprint ADI-RI-16-1_M (SOIC, 16-Leads, Body 12.8x7.5mm, Pitch 1.27mm, IPC Low Density)
pins: 1 VDD1 (power) "Supply Voltage for Isolator Side 1.", 2 GND1 (power) "Ground 1. Ground reference for Isolator Side 1.", 3 VIA (in) "Logic Input A.", 4 VIB (in) "Logic Input B.", 5 VOC (hiz) "Logic Output C.", 6 VOD (hiz) "Logic Output D.", 7 VE1 (in) "Output Enable 1. Active high logic input. VOC and VOD outputs are enabled when VE1 is high or disconnected. VOC and VOD outputs are disabled when VE1 is low. In noisy environments, connecting VE1 to an external logic high or (See Datasheet)", 8 GND1 (power) "Ground 1. Ground reference for Isolator Side 1.", 9 GND2 (power) "Ground 2. Ground reference for Isolator Side 2.", 10 VE2 (in) "Output Enable 2. Active high logic input. VOA and VOB outputs are enabled when VE2 is high or disconnected. VOA and VOB outputs are disabled when VE2 is low. In noisy environments, connecting VE2 to an external logic high or (See Datasheet)", 11 VID (in) "Logic Input D.", 12 VIC (in) "Logic Input C.", 13 VOB (hiz) "Logic Output B.", 14 VOA (hiz) "Logic Output A.", 15 GND2 (power) "Ground 2. Ground reference for Isolator Side 2.", 16 VDD2 (power) "Supply Voltage for Isolator Side 2."

## ADUM4402BRWZ
designator U?
Quad Channel Digital Isolator, 5 KV rms Insulation Rating, 10 Mbps Data Rate, 50 ns Delay, Industrial, 16-pin SOIC (RW-16), Tube; Manufacturer: Analog Devices; PartNumber: ADUM4402BRWZ; Insulation Rating (kVrms): 5; Max Data Rate: 10Mbps; DatasheetVersion: Rev. C; PackageVersion: 032707-B, 03/2007; PackageReference: RW-16; PackageDescription: 16-Pin Standard Small Outline Package, Body 10.3 x 7.5 mm, Pitch 1.27 mm; Supplier 1: Digi-Key; Supplier Part Number 1: ADUM4402BRWZ-ND; Supplier 2: Mouser; Supplier Part Number 2: 584-ADUM4402BRWZ; Max Operating Temp (degreesC): 105; Mounting Technology: Surface Mount; Code_JEDEC: MS-013-AA; ComponentLink1Description: Manufacturer URL; ComponentLink1URL: http://www.analog.com/en/index.html; ComponentLink2Description: Datasheet; ComponentLink2URL: http://www.analog.com/static/imported-files/data_sheets/ADuM4400_4401_4402.pdf; ComponentLink3Description: Package Specification; ComponentLink3URL: http://www.analog.com/static/imported-files/packages/PKG_PDF/SOIC_WIDE%20%28RW%29/RW_16.pdf; ComponentLink4Description: URL Link1; ComponentLink4URL: Product URL:http://www.analog.com/en/interface-isolation/digital-isolators/adum4402/products/product.html
footprint ADI-RW-16_N (SOIC, 16-Leads, Body 10.3x7.5mm, Pitch 1.27mm, IPC Medium Density)
footprint ADI-RW-16_L (SOIC, 16-Leads, Body 10.3x7.5mm, Pitch 1.27mm, IPC High Density)
footprint ADI-RW-16_M (SOIC, 16-Leads, Body 10.3x7.5mm, Pitch 1.27mm, IPC Low Density)
pins: 1 VDD1 (power) "Supply Voltage for Isolator Side 1.", 2 GND1 (power) "Ground 1. Ground reference for Isolator Side 1.", 3 VIA (in) "Logic Input A.", 4 VIB (in) "Logic Input B.", 5 VOC (hiz) "Logic Output C.", 6 VOD (hiz) "Logic Output D.", 7 VE1 (in) "Output Enable 1. Active high logic input. VOC and VOD outputs are enabled when VE1 is high or disconnected. VOC and VOD outputs are disabled when VE1 is low. In noisy environments, connecting VE1 to an external logic high or (See Datasheet)", 8 GND1 (power) "Ground 1. Ground reference for Isolator Side 1.", 9 GND2 (power) "Ground 2. Ground reference for Isolator Side 2.", 10 VE2 (in) "Output Enable 2. Active high logic input. VOA and VOB outputs are enabled when VE2 is high or disconnected. VOA and VOB outputs are disabled when VE2 is low. In noisy environments, connecting VE2 to an external logic high or (See Datasheet)", 11 VID (in) "Logic Input D.", 12 VIC (in) "Logic Input C.", 13 VOB (hiz) "Logic Output B.", 14 VOA (hiz) "Logic Output A.", 15 GND2 (power) "Ground 2. Ground reference for Isolator Side 2.", 16 VDD2 (power) "Supply Voltage for Isolator Side 2."

## ADUM4402BRWZ-RL
designator U?
Quad Channel Digital Isolator, 5 KV rms Insulation Rating, 10 Mbps Data Rate, 50 ns Delay, Industrial, 16-pin SOIC (RW-16), Reel; Manufacturer: Analog Devices; PartNumber: ADUM4402BRWZ-RL; Insulation Rating (kVrms): 5; Max Data Rate: 10Mbps; DatasheetVersion: Rev. C; PackageVersion: 032707-B, 03/2007; PackageReference: RW-16; PackageDescription: 16-Pin Standard Small Outline Package, Body 10.3 x 7.5 mm, Pitch 1.27 mm; Supplier 1: Digi-Key; Supplier Part Number 1: ADUM4402BRWZ-RL-ND; Supplier 2: Mouser; Supplier Part Number 2: 584-ADUM4402BRWZ-R; Max Operating Temp (degreesC): 105; Mounting Technology: Surface Mount; Code_JEDEC: MS-013-AA; ComponentLink1Description: Manufacturer URL; ComponentLink1URL: http://www.analog.com/en/index.html; ComponentLink2Description: Datasheet; ComponentLink2URL: http://www.analog.com/static/imported-files/data_sheets/ADuM4400_4401_4402.pdf; ComponentLink3Description: Package Specification; ComponentLink3URL: http://www.analog.com/static/imported-files/packages/PKG_PDF/SOIC_WIDE%20%28RW%29/RW_16.pdf; ComponentLink4Description: URL Link1; ComponentLink4URL: Product URL:http://www.analog.com/en/interface-isolation/digital-isolators/adum4402/products/product.html
footprint ADI-RW-16_N (SOIC, 16-Leads, Body 10.3x7.5mm, Pitch 1.27mm, IPC Medium Density)
footprint ADI-RW-16_L (SOIC, 16-Leads, Body 10.3x7.5mm, Pitch 1.27mm, IPC High Density)
footprint ADI-RW-16_M (SOIC, 16-Leads, Body 10.3x7.5mm, Pitch 1.27mm, IPC Low Density)
pins: 1 VDD1 (power) "Supply Voltage for Isolator Side 1.", 2 GND1 (power) "Ground 1. Ground reference for Isolator Side 1.", 3 VIA (in) "Logic Input A.", 4 VIB (in) "Logic Input B.", 5 VOC (hiz) "Logic Output C.", 6 VOD (hiz) "Logic Output D.", 7 VE1 (in) "Output Enable 1. Active high logic input. VOC and VOD outputs are enabled when VE1 is high or disconnected. VOC and VOD outputs are disabled when VE1 is low. In noisy environments, connecting VE1 to an external logic high or (See Datasheet)", 8 GND1 (power) "Ground 1. Ground reference for Isolator Side 1.", 9 GND2 (power) "Ground 2. Ground reference for Isolator Side 2.", 10 VE2 (in) "Output Enable 2. Active high logic input. VOA and VOB outputs are enabled when VE2 is high or disconnected. VOA and VOB outputs are disabled when VE2 is low. In noisy environments, connecting VE2 to an external logic high or (See Datasheet)", 11 VID (in) "Logic Input D.", 12 VIC (in) "Logic Input C.", 13 VOB (hiz) "Logic Output B.", 14 VOA (hiz) "Logic Output A.", 15 GND2 (power) "Ground 2. Ground reference for Isolator Side 2.", 16 VDD2 (power) "Supply Voltage for Isolator Side 2."

## ADUM4402CRIZ
designator U?
Quad Channel Digital Isolator, 5 KV rms Insulation Rating, 90 Mbps Data Rate, 32 ns Delay, Industrial, 16-pin SOIC (RI-16-1), Tube; Manufacturer: Analog Devices; PartNumber: ADUM4402CRIZ; Insulation Rating (kVrms): 5; Max Data Rate: 90Mbps; DatasheetVersion: Rev. C; PackageVersion: 10-12-2010-A, 02/2012; PackageReference: RI-16-1; PackageDescription: 16-Pin Standard Small Outline Package, with Increased Creepage, Body 12.8 x 7.5 mm, Pitch 1.27 mm; Supplier 1: Digi-Key; Supplier Part Number 1: ADUM4402CRIZ-ND; Supplier 2: Farnell; Supplier Part Number 2: 2061084; Supplier 3: Mouser; Supplier Part Number 3: 584-ADUM4402CRIZ; Max Operating Temp (degreesC): 105; Mounting Technology: Surface Mount; Code_JEDEC: MS-013-AC; ComponentLink1Description: Manufacturer URL; ComponentLink1URL: http://www.analog.com/en/index.html; ComponentLink2Description: Datasheet; ComponentLink2URL: http://www.analog.com/static/imported-files/data_sheets/ADuM4400_4401_4402.pdf; ComponentLink3Description: Package Specification; ComponentLink3URL: http://www.analog.com/static/imported-files/data_sheets/ADuM2400_2401_2402.pdf; ComponentLink4Description: URL Link1; ComponentLink4URL: Product URL:http://www.analog.com/en/interface-isolation/digital-isolators/adum4402/products/product.html
footprint ADI-RI-16-1_N (SOIC, 16-Leads, Body 12.8x7.5mm, Pitch 1.27mm, IPC Medium Density)
footprint ADI-RI-16-1_L (SOIC, 16-Leads, Body 12.8x7.5mm, Pitch 1.27mm, IPC High Density)
footprint ADI-RI-16-1_M (SOIC, 16-Leads, Body 12.8x7.5mm, Pitch 1.27mm, IPC Low Density)
pins: 1 VDD1 (power) "Supply Voltage for Isolator Side 1.", 2 GND1 (power) "Ground 1. Ground reference for Isolator Side 1.", 3 VIA (in) "Logic Input A.", 4 VIB (in) "Logic Input B.", 5 VOC (hiz) "Logic Output C.", 6 VOD (hiz) "Logic Output D.", 7 VE1 (in) "Output Enable 1. Active high logic input. VOC and VOD outputs are enabled when VE1 is high or disconnected. VOC and VOD outputs are disabled when VE1 is low. In noisy environments, connecting VE1 to an external logic high or (See Datasheet)", 8 GND1 (power) "Ground 1. Ground reference for Isolator Side 1.", 9 GND2 (power) "Ground 2. Ground reference for Isolator Side 2.", 10 VE2 (in) "Output Enable 2. Active high logic input. VOA and VOB outputs are enabled when VE2 is high or disconnected. VOA and VOB outputs are disabled when VE2 is low. In noisy environments, connecting VE2 to an external logic high or (See Datasheet)", 11 VID (in) "Logic Input D.", 12 VIC (in) "Logic Input C.", 13 VOB (hiz) "Logic Output B.", 14 VOA (hiz) "Logic Output A.", 15 GND2 (power) "Ground 2. Ground reference for Isolator Side 2.", 16 VDD2 (power) "Supply Voltage for Isolator Side 2."

## ADUM4402CRIZ-RL
designator U?
Quad Channel Digital Isolator, 5 KV rms Insulation Rating, 90 Mbps Data Rate, 32 ns Delay, Industrial, 16-pin SOIC (RI-16-1), Reel; Manufacturer: Analog Devices; PartNumber: ADUM4402CRIZ-RL; Insulation Rating (kVrms): 5; Max Data Rate: 90Mbps; DatasheetVersion: Rev. C; PackageVersion: 10-12-2010-A, 02/2012; PackageReference: RI-16-1; PackageDescription: 16-Pin Standard Small Outline Package, with Increased Creepage, Body 12.8 x 7.5 mm, Pitch 1.27 mm; Supplier 1: Digi-Key; Supplier Part Number 1: ADUM4402CRIZ-RL-ND; Supplier 2: Mouser; Supplier Part Number 2: 584-ADUM4402CRIZ-R; Max Operating Temp (degreesC): 105; Mounting Technology: Surface Mount; Code_JEDEC: MS-013-AC; ComponentLink1Description: Manufacturer URL; ComponentLink1URL: http://www.analog.com/en/index.html; ComponentLink2Description: Datasheet; ComponentLink2URL: http://www.analog.com/static/imported-files/data_sheets/ADuM4400_4401_4402.pdf; ComponentLink3Description: Package Specification; ComponentLink3URL: http://www.analog.com/static/imported-files/data_sheets/ADuM2400_2401_2402.pdf; ComponentLink4Description: URL Link1; ComponentLink4URL: Product URL:http://www.analog.com/en/interface-isolation/digital-isolators/adum4402/products/product.html
footprint ADI-RI-16-1_N (SOIC, 16-Leads, Body 12.8x7.5mm, Pitch 1.27mm, IPC Medium Density)
footprint ADI-RI-16-1_L (SOIC, 16-Leads, Body 12.8x7.5mm, Pitch 1.27mm, IPC High Density)
footprint ADI-RI-16-1_M (SOIC, 16-Leads, Body 12.8x7.5mm, Pitch 1.27mm, IPC Low Density)
pins: 1 VDD1 (power) "Supply Voltage for Isolator Side 1.", 2 GND1 (power) "Ground 1. Ground reference for Isolator Side 1.", 3 VIA (in) "Logic Input A.", 4 VIB (in) "Logic Input B.", 5 VOC (hiz) "Logic Output C.", 6 VOD (hiz) "Logic Output D.", 7 VE1 (in) "Output Enable 1. Active high logic input. VOC and VOD outputs are enabled when VE1 is high or disconnected. VOC and VOD outputs are disabled when VE1 is low. In noisy environments, connecting VE1 to an external logic high or (See Datasheet)", 8 GND1 (power) "Ground 1. Ground reference for Isolator Side 1.", 9 GND2 (power) "Ground 2. Ground reference for Isolator Side 2.", 10 VE2 (in) "Output Enable 2. Active high logic input. VOA and VOB outputs are enabled when VE2 is high or disconnected. VOA and VOB outputs are disabled when VE2 is low. In noisy environments, connecting VE2 to an external logic high or (See Datasheet)", 11 VID (in) "Logic Input D.", 12 VIC (in) "Logic Input C.", 13 VOB (hiz) "Logic Output B.", 14 VOA (hiz) "Logic Output A.", 15 GND2 (power) "Ground 2. Ground reference for Isolator Side 2.", 16 VDD2 (power) "Supply Voltage for Isolator Side 2."